# Altium schematic symbol library 826652-2.SchLib: 2 symbols
Pins are listed as number, name and electrical type; pins without a type are passive.

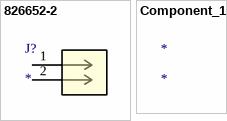
[diagram p0: symbols 826652-2 to Component_1]

## 826652-2
designator J?
No Description Available; Mfr_Name: TE Connectivity; RefDes: RefDes; Type: Type
footprint CON2_1X2_P100RM_HDR_TYC
pins: 1, 2

## Component_1
designator *